# Altium footprint library E209_Footprints.PcbLib: 40 footprints (part 2 of 3)
Each footprint in its own frame and in the unit in brackets; x right, y up, seen from the top. Pads: shape width x height; smd on the part's side, far side on the other; paste and mask are expansions set on the pad; w line width, h text height; cw(c..) or ccw(c..) is an arc to the next point about the centre after c.
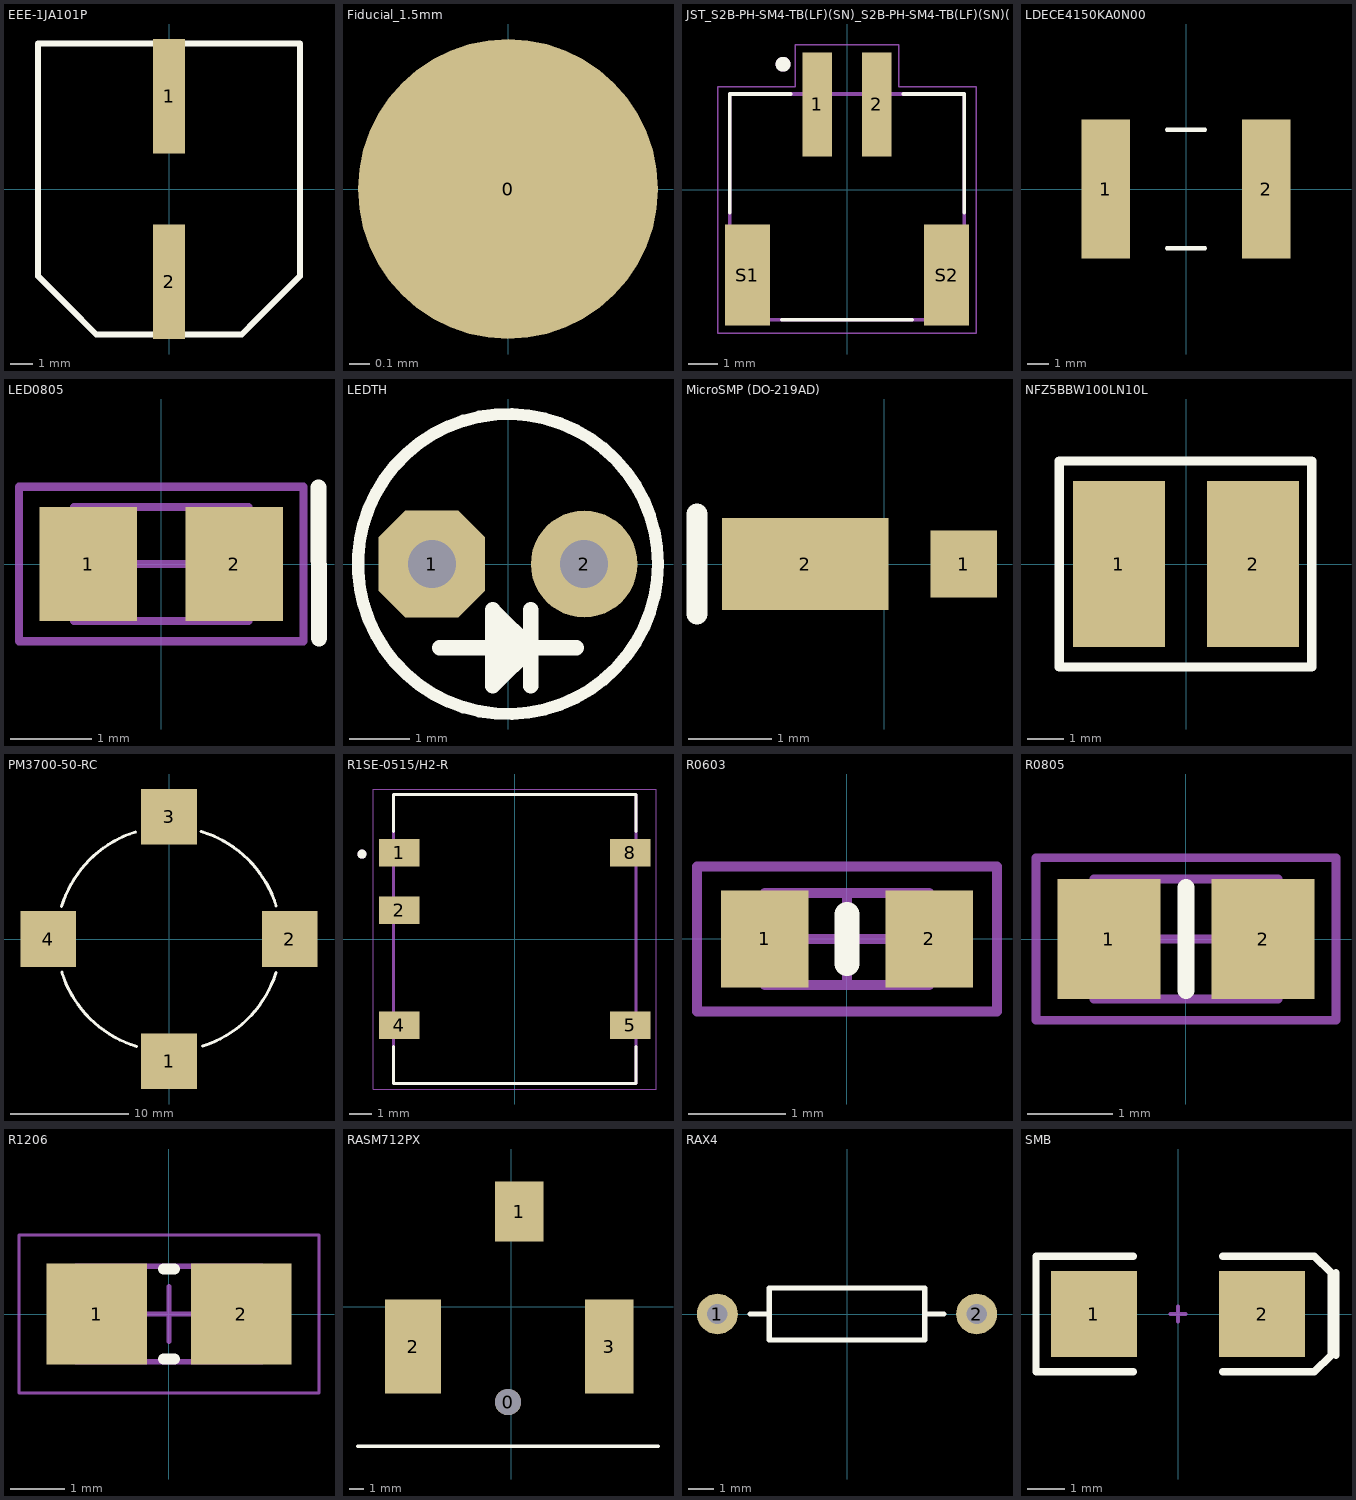
[diagram p1: the footprints below, top view; thin cyan lines are the x and y axes]

## EEE-1JA101P [mm] "CAP ALUM 100UF 20% 63V SMD"
pads (2):
  rect 1.4x5 smd: 1(0,4.05) 2(0,-4.05)
Top Overlay:
  lines w0.254: -5.715,-3.81 -5.715,6.35 5.715,6.35 5.715,-3.81 3.81,-5.715 3.175,-6.35 -3.175,-6.35 -4.445,-5.08 -5.715,-3.81
3D body "猞10 SIZE CODE G.stp": height 10.3, standoff 0.1, extent -5.15,-5.85 5.15,5.85

## Fiducial_1.5mm [mm]
pads (1):
  round 1.5 smd: 0(0,0)

## JST_S2B-PH-SM4-TB(LF)(SN)_S2B-PH-SM4-TB(LF)(SN)(Primary) [mm] "CONN HEADER SMD R/A 2POS 2MM"
pads (4):
  rect 1x3.5 smd: 1(-1,2.875) 2(1,2.875)
  rect 1.5x3.4 smd: S1(-3.35,-2.875) S2(3.35,-2.875)
Top Overlay:
  circle w0.3: c-2.15,4.225 r0.1
  lines w0.127: -3.95,-0.775 -3.95,3.225 -1.9,3.225 ; -2.2,-4.375 2.2,-4.375 ; 1.9,3.225 3.95,3.225 3.95,-0.775
Mechanical 13:
  circle w0.3: c-2.15,4.225 r0.1
  circle w0.3: c-2.15,4.225 r0.1
  lines w0.127: -3.95,-4.375 -3.95,3.225 ; -3.95,-4.375 3.95,-4.375 ; -3.95,-4.375 -3.95,3.225 ; -3.95,-4.375 3.95,-4.375 ; -3.95,3.225 3.95,3.225 ; -3.95,3.225 3.95,3.225 ; 3.95,-4.375 3.95,3.225 ; 3.95,-4.375 3.95,3.225
Mechanical 16:
  lines w0.05: -4.35,-4.825 -4.35,3.475 -1.75,3.475 -1.75,4.875 1.75,4.875 1.75,3.475 4.35,3.475 4.35,-4.825 -4.35,-4.825
3D body "S2B-PH-SM4-TB(LF)(SN)--3DModel-STEP-56544.STEP": height 5.58, standoff -0.02, extent -3.95,-4.542 3.95,4.058

## LDECE4150KA0N00 [mm]
pads (2):
  rect 2.3x6.6 smd: 1(-3.8,0) 2(3.8,0)
Top Overlay:
  lines w0.2: -0.9,-2.8 0.9,-2.8 ; -0.9,2.8 0.9,2.8
3D body "LDECE4150KA0N00.step": height 4.29, standoff -0.01, extent -3.82,-3.256 3.88,3.244

## LED0805 [mm]
pads (2):
  rect 1.2x1.4 smd: 1(-0.9,0) 2(0.9,0)
Top Overlay:
  lines w0.2: 1.935,0.942 1.941,-0.912
Mechanical 13:
  lines w0.1: -1.075,-0.7 1.075,-0.7 1.075,0.7 -1.075,0.7 -1.075,-0.7
Mechanical 15:
  lines w0.1: -0.5,0 0.5,0 ; -0.384,-0.663 -0.384,0.337 ; -1.75,-0.95 1.75,-0.95 1.75,0.95 -1.75,0.95 -1.75,-0.95
3D body "0805.STEP": height 0.6, standoff 0, extent -1.039,-0.626 0.993,0.644

## LEDTH [mil] "LED through hole"
pads (2):
  oct 70x70 hole 31.5: 1(-50,0)
  round 70 hole 31.5: 2(50,0)
Top Overlay:
  circle w8: c0,0 r98.42
  lines w10: -45,-55 45,-55 ; -0.31,-70.31 -0.31,-40.31 0,-40 ; 15,-80 15,-30 ; -10,-80 15,-55 -10,-30 -10,-80

## MicroSMP (DO-219AD) [mm]
pads (2):
  rect 0.8x0.8 smd: 1(0.95,0)
  rect 2x1.1 smd: 2(-0.95,0)
Top Overlay:
  lines w0.254: -2.25,-0.6 -2.25,0.6
3D body "MSMP package.STEP": height 0.66, standoff -0.02, extent -1.581,-0.635 0.919,0.665

## NFZ5BBW100LN10L [mm] "FERRITE BEAD 10 OHM 2020 1LN"
pads (2):
  rect 2.5x4.5 smd: 1(-1.825,0) 2(1.825,0)
Top Overlay:
  lines w0.254: -3.447,-2.8 3.414,-2.8 3.414,2.8 -3.447,2.8 -3.447,-2.8
3D body "NFZ5BBW100LN10L.stp": height 2.3, standoff 0, extent -2.565,-2.5 2.565,2.5

## PM3700-50-RC [mm]
pads (4):
  rect 4.7x4.7 smd: 1(0,-10.351) 2(10.223,0) 3(0,10.351) 4(-10.223,0)
Top Overlay:
  lines w0.254: -9.095,2.744 cw(c0,0) -2.816,9.073 ; -9.077,-2.804 ccw(c0,0) -2.732,-9.099 ; 2.719,9.102 cw(c0,0) 9.079,2.798 ; 2.852,-9.062 ccw(c0,0) 9.065,-2.842
3D body "User Library-PM3700-50-RC.step": height 11.44, standoff 0, extent -10.8,-10.698 10.8,10.902

## R1SE-0515/H2-R [mm]
pads (5):
  rect 1.8x1.2 smd: 1(-5.1,3.81) 2(-5.1,1.27) 4(-5.1,-3.81) 5(5.1,-3.81) 8(5.1,3.81)
Top Overlay:
  circle w0.2: c-6.75,3.75 r0.1
  lines w0.127: -5.35,-4.74 -5.35,-6.375 5.35,-6.375 5.35,-4.74 ; -5.35,4.74 -5.35,6.375 5.35,6.375 5.35,4.74
Mechanical 13:
  circle w0.2: c-6.75,3.75 r0.1
  circle w0.2: c-6.75,3.75 r0.1
  lines w0.127: -5.35,-6.375 -5.35,6.375 ; -5.35,-6.375 5.35,-6.375 ; -5.35,-6.375 -5.35,6.375 ; -5.35,-6.375 5.35,-6.375 ; -5.35,6.375 5.35,6.375 ; -5.35,6.375 5.35,6.375 ; 5.35,-6.375 5.35,6.375 ; 5.35,-6.375 5.35,6.375
Mechanical 15:
  lines w0.05: -6.25,-6.625 -6.25,6.625 6.25,6.625 6.25,-6.625 -6.25,-6.625
3D body "R1SE_H2.step": height 6.95, standoff 0, extent -5.55,-6.375 5.55,6.375

## R0603 [mm]
pads (2):
  rect 0.9x1 smd: 1(-0.85,0) 2(0.85,0)
Top Overlay:
  lines w0.254: 0,-0.254 0,0.254
Mechanical 13:
  lines w0.1: -0.85,-0.475 -0.85,0.475 0.85,0.475 0.85,-0.475 -0.85,-0.475
Mechanical 15:
  lines w0.1: -0.475,0 0.475,0 ; 0,-0.475 0,0.475 ; -1.55,-0.75 -1.55,0.75 1.55,0.75 1.55,-0.75 -1.55,-0.75
3D body: height 0.6, standoff 0, extent -0.85,-0.475 0.85,0.475

## R0805 [mm]
pads (2):
  rect 1.2x1.4 smd: 1(-0.9,0) 2(0.9,0)
Top Overlay:
  lines w0.2: 0,-0.6 0,0.6
Mechanical 13:
  lines w0.1: -1.075,-0.7 -1.075,0.7 1.075,0.7 1.075,-0.7 -1.075,-0.7
Mechanical 15:
  lines w0.1: -0.5,0 0.5,0 ; 0,-0.5 0,0.5 ; -1.75,-0.95 -1.75,0.95 1.75,0.95 1.75,-0.95 -1.75,-0.95
3D body "0805.STEP": height 0.6, standoff 0, extent -1.039,-0.626 0.993,0.644

## R1206 [mm] "Chip Resistor, 2-Leads, Body 3.20x1.60mm, IPC Low Density"
height 0.65
pads (2):
  rect 1.85x1.85 smd: 1(-1.325,0) 2(1.325,0)
Top Overlay:
  lines w0.2: -0.1,-0.825 0.1,-0.825 ; -0.1,0.825 0.1,0.825
Mechanical 13:
  lines w0.1: -1.7,-0.875 1.7,-0.875 1.7,0.875 -1.7,0.875 -1.7,-0.875
Mechanical 15:
  lines w0.05: -2.75,-1.45 2.75,-1.45 2.75,1.45 -2.75,1.45 -2.75,-1.45
  lines w0.1: -0.5,0 0.5,0 ; 0,-0.5 0,0.5
3D body: height 0.65, standoff 0, extent 0.8,-0.875 1.7,0.875
3D body: height 0.65, standoff 0, extent -1.7,-0.875 -0.8,0.875
3D body: height 0.65, standoff 0, extent -0.8,-0.875 0.8,0.875

## RASM712PX [mm]
pads (4):
  round 1.78 hole 1.78 unplated: 0(-0.215,-6.45)
  rect 3.3x4.06 smd: 1(0.545,6.45)
  rect 3.81x6.35 smd: 2(-6.645,-2.69)
  rect 3.3x6.35 smd: 3(6.645,-2.69)
Top Overlay:
  lines w0.254: -10.375,-9.45 9.945,-9.45
3D body "User Library-RASM722.STEP": height 11.4, standoff 0.32, extent -7.599,-9.272 7.601,7.628

## RAX4 [mm]
pads (2):
  round 1.6 hole 0.8: 1(-5.08,0) 2(5.08,0)
Top Overlay:
  lines w0.2: -3.81,0 -3.048,0 ; 3.048,0 3.81,0 ; -3.048,-1.016 -3.048,1.016 3.048,1.016 3.048,-1.016 -3.048,-1.016

## SMB [mm] "DO-214-AA/SMB; 2 C-Bend Leads; Body 5.3 x 3.6 mm, inc. leads (LxW)"
height 2.54
pads (2):
  rect 2.3x2.3 smd: 1(-2.25,0) 2(2.25,0)
Top Overlay:
  lines w0.2: -1.2,-1.55 -3.8,-1.55 -3.8,1.55 -1.2,1.55 ; 1.2,-1.55 3.65,-1.55 4.1,-1.1 4.1,1.1 3.65,1.55 1.2,1.55 ; 4.227,-1.1 4.227,1.1
Mechanical 1:
  lines w0.1: -0.2,0 0.2,0 ; 0,-0.2 0,0.2
3D body "SMB.step": height 2.45, standoff 0, extent -2.795,-1.97 2.795,1.97